# Altium footprint library ControlCircuit_PCB_Library_V1_0.PcbLib: 207 footprints (part 13 of 13)
Each footprint in its own frame and in the unit in brackets; x right, y up, seen from the top. Pads: shape width x height; smd on the part's side, far side on the other; paste and mask are expansions set on the pad; w line width, h text height; cw(c..) or ccw(c..) is an arc to the next point about the centre after c.
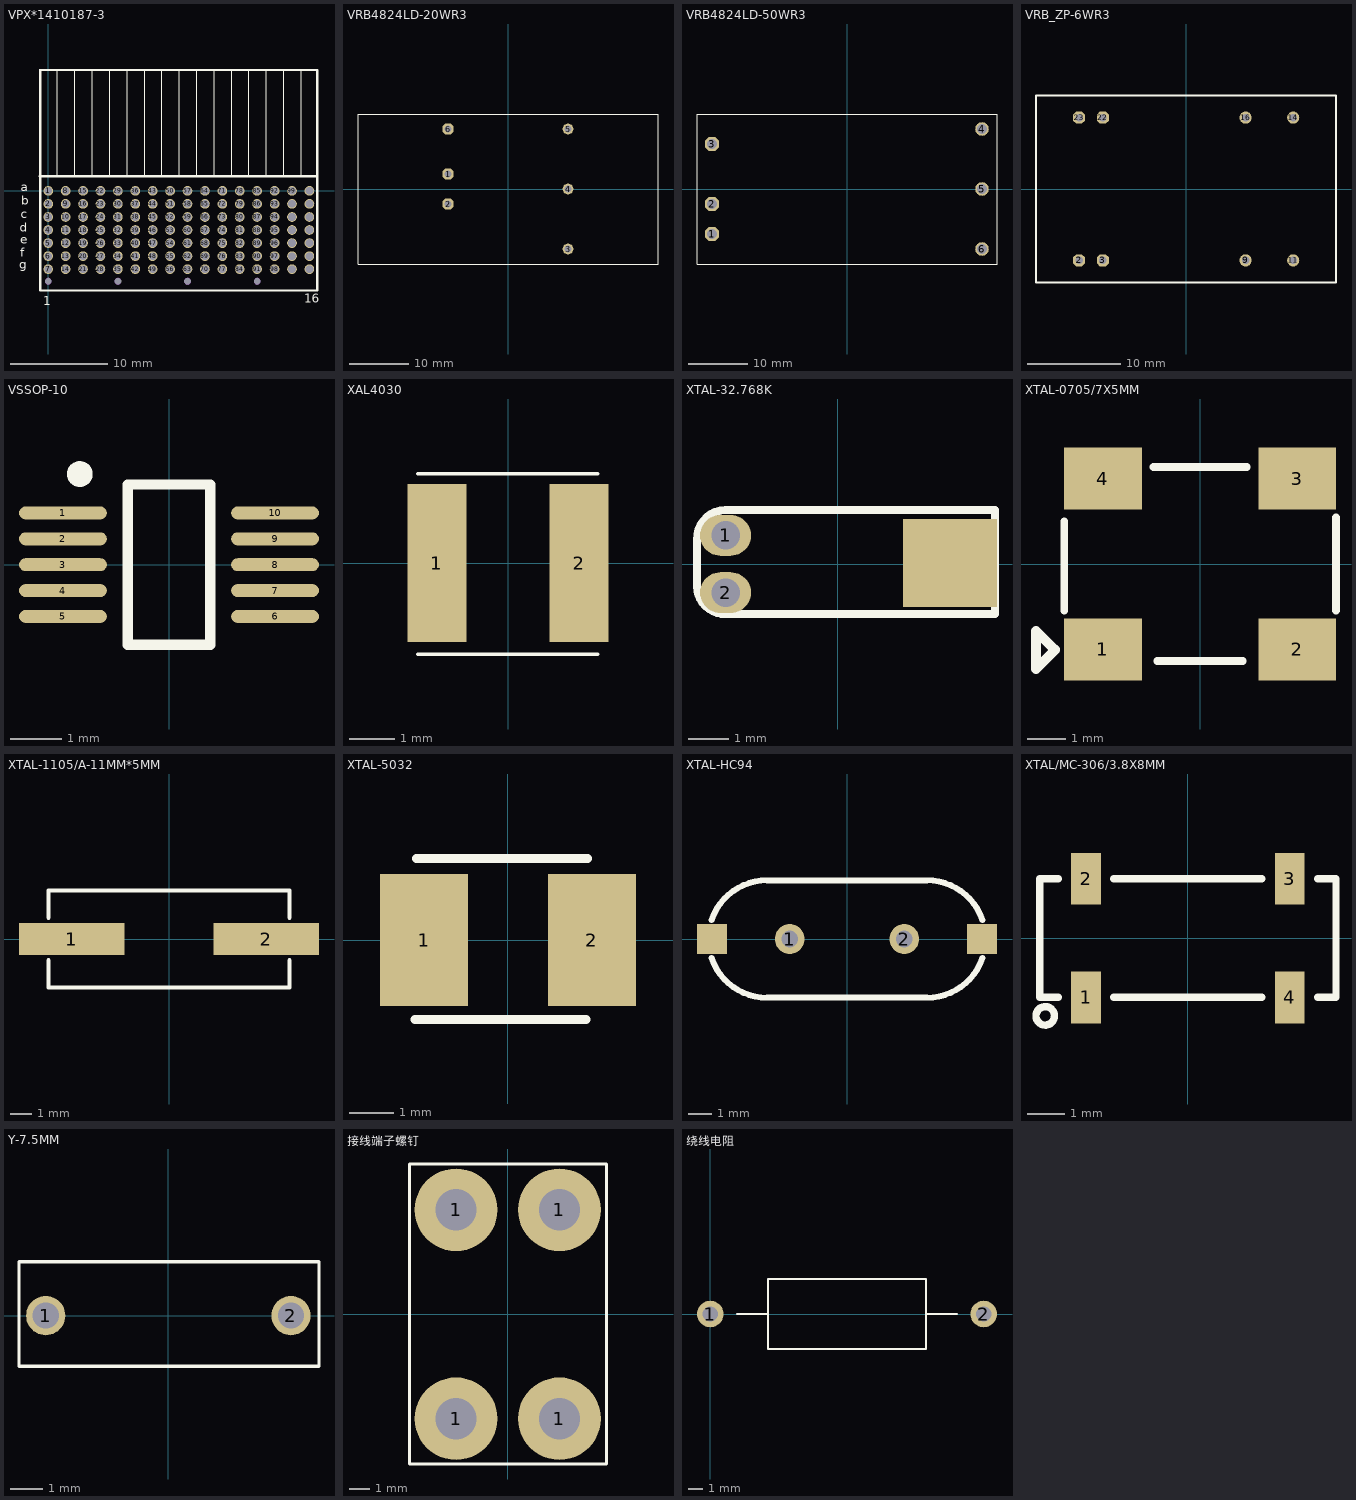
[diagram p12: the footprints below, top view; thin cyan lines are the x and y axes]

## VPX*1410187-3 [mm]
pads (116):
  round 0 hole 0.7 mask+0.102: 0(-0.003,-9.35) 0(7.198,-9.35) 0(14.397,-9.35) 0(21.598,-9.35)
  round 1 hole 0.8 mask+0.102: 1(0,0) 2(0,-1.346) 3(-0.003,-2.7) 4(-0.003,-4.049) 5(-0.003,-5.4) 6(-0.003,-6.749) 7(-0.003,-8.1) 8(1.798,0) 9(1.798,-1.346) 10(1.796,-2.7) 11(1.796,-4.049) 12(1.796,-5.4) 13(1.796,-6.749) 14(1.796,-8.1) 15(3.599,0) 16(3.599,-1.346) 17(3.597,-2.7) 18(3.597,-4.049) 19(3.597,-5.4) 20(3.597,-6.749) 21(3.597,-8.1) 22(5.397,0) 23(5.397,-1.346) 24(5.395,-2.7) 25(5.395,-4.049) 26(5.395,-5.4) 27(5.395,-6.749) 28(5.395,-8.1) 29(7.198,0) 30(7.198,-1.346) 31(7.196,-2.7) 32(7.196,-4.049) 33(7.196,-5.4) 34(7.196,-6.749) 35(7.196,-8.1) 36(8.997,0) 37(8.997,-1.346) 38(8.994,-2.7) 39(8.994,-4.049) 40(8.994,-5.4) 41(8.994,-6.749) 42(8.994,-8.1) 43(10.798,0) 44(10.798,-1.346) 45(10.795,-2.7) 46(10.795,-4.049) 47(10.795,-5.4) 48(10.795,-6.749) 49(10.795,-8.1) 50(12.598,0) 51(12.598,-1.346) 52(12.596,-2.7) 53(12.596,-4.049) 54(12.596,-5.4) 55(12.596,-6.749) 56(12.596,-8.1) 57(14.397,0) 58(14.397,-1.346) 59(14.394,-2.7) 60(14.394,-4.049) 61(14.394,-5.4) 62(14.394,-6.749) 63(14.394,-8.1) 64(16.198,0) 65(16.198,-1.346) 66(16.195,-2.7) 67(16.195,-4.049) 68(16.195,-5.4) 69(16.195,-6.749) 70(16.195,-8.1) 71(17.998,0) 72(17.998,-1.346) 73(17.996,-2.7) 74(17.996,-4.049) 75(17.996,-5.4) 76(17.996,-6.749) 77(17.996,-8.1) 78(19.797,0) 79(19.797,-1.346) 80(19.794,-2.7) 81(19.794,-4.049) 82(19.794,-5.4) 83(19.794,-6.749) 84(19.794,-8.1) 85(21.598,0) 86(21.598,-1.346) 87(21.595,-2.7) 88(21.595,-4.049) 89(21.595,-5.4) 90(21.595,-6.749) 91(21.595,-8.1) 92(23.398,0) 93(23.398,-1.346) 94(23.396,-2.7) 95(23.396,-4.049) 96(23.396,-5.4) 97(23.396,-6.749) 98(23.396,-8.1) 99(25.197,0) 100(25.197,-1.346) 101(25.194,-2.7) 102(25.194,-4.049) 103(25.194,-5.4) 104(25.194,-6.749) 105(25.194,-8.1) 106(26.998,0) 107(26.998,-1.346) 108(26.995,-2.7) 109(26.995,-4.049) 110(26.995,-5.4) 111(26.995,-6.749) 112(26.995,-8.1)
Top Overlay:
  lines w0.1: 0.947,1.501 0.947,12.459 ; 2.748,1.501 2.748,12.459 ; 4.549,1.501 4.549,12.459 ; 6.347,1.501 6.347,12.459 ; 8.148,1.501 8.148,12.459 ; 9.949,1.501 9.949,12.459 ; 11.747,1.501 11.747,12.459 ; 13.548,1.501 13.548,12.459 ; 15.349,1.501 15.349,12.459 ; 17.15,1.501 17.15,12.459 ; 18.948,1.501 18.948,12.459 ; 20.749,1.501 20.749,12.459 ; 22.55,1.501 22.55,12.459 ; 24.348,1.501 24.348,12.459 ; 26.149,1.501 26.149,12.459
  lines w0.254: -0.859,1.501 27.783,1.501 27.793,1.491 ; -0.843,-10.304 27.824,-10.304 27.824,12.494 -0.834,12.494 -0.843,12.485 -0.843,-8.1 -0.843,-10.304
  text "a" at -2.85,-0.371 h1.52
  text "b" at -2.809,-1.725 h1.52
  text "c" at -2.863,-3.157 h1.52
  text "d" at -2.944,-4.536 h1.52
  text "e" at -2.891,-5.781 h1.52
  text "f" at -2.891,-7.135 h1.52
  text "g" at -3.025,-8.352 h1.52
  text "1" at -0.508,-12.113 h1.52
  text "16" at 26.464,-11.897 h1.52
Mechanical 1:
  drawing of 556 lines, arcs and shapes, not listed

## VRB4824LD-20WR3 [mm]
height 11.8
pads (6):
  oct 1.8x1.8 hole 1.25: 1(-10.16,2.54) 2(-10.16,-2.54) 6(-10.16,10.16)
  round 1.8 hole 1.25: 3(10.16,-10.16) 4(10.16,0) 5(10.16,10.16)
Top Overlay:
  lines w0.2: -25.4,-12.7 25.4,-12.7 25.4,12.7 -25.4,12.7 -25.4,-12.7

## VRB4824LD-50WR3 [mm]
pads (6):
  oct 2.3x2.3 hole 1.7: 1(-22.86,-7.62) 2(-22.86,-2.54) 3(-22.86,7.62)
  round 2.3 hole 1.7: 4(22.86,10.16) 5(22.86,0) 6(22.86,-10.16)
Top Overlay:
  lines w0.2: -25.4,-12.7 -25.4,12.7 25.4,12.7 25.4,-12.7 -25.4,-12.7

## VRB_ZP-6WR3 [mm]
pads (8):
  oct 1.3x1.3 hole 0.8: 2(-11.43,-7.62) 3(-8.89,-7.62) 22(-8.89,7.62) 23(-11.43,7.62)
  round 1.3 hole 0.8: 9(6.35,-7.62) 11(11.43,-7.62) 14(11.43,7.62) 16(6.35,7.62)
Top Overlay:
  lines w0.2: -16.027,-9.246 -16.027,10 16.002,10 16.002,-7.62 16.002,-9.975 ; -16.027,-5.385 -16.027,-10 16.002,-10

## VSSOP-10 [mm] "SSOP, 10-Leads, Body 3.1x7.5mm (max), Pitch 0.50mm, IPC Medium Density"
height 2.65
pads (10):
  oval 1.7x0.25 smd: 1(-2.05,1) 2(-2.05,0.5) 3(-2.05,0) 4(-2.05,-0.5) 5(-2.05,-1) 6(2.05,-1) 7(2.05,-0.5) 8(2.05,0) 9(2.05,0.5) 10(2.05,1)
Top Overlay:
  circle w0.25: c-1.725,1.753 r0.125
  lines w0.2: -0.8,-1.55 0.8,-1.55 0.8,1.55 -0.8,1.55 -0.8,-1.55

## XAL4030 [mm]
pads (2):
  rect 1.3x3.5 smd: 1(-1.575,0) 2(1.575,0)
Top Overlay:
  lines w0.076: -2.007,-2.019 1.993,-2.019 ; -2.007,1.981 1.993,1.981

## XTAL-32.768K [mil]
pads (3):
  oval 50x40 hole 28: 1(-110,28) 2(-110,-28)
  rect 92.13x86 smd: ""(110,1)
Top Overlay:
  lines w8: -138,-22 ccw(c-110.5,-21.5) -110,-49 154,-49 154,53 -110,53 ccw(c-109.5,24.5) -138,24 -138,-22

## XTAL-0705/7X5MM [mm]
pads (4):
  rect 2x1.6 smd: 1(-2.5,-2.2) 2(2.5,-2.2) 3(2.5,2.2) 4(-2.5,2.2)
Top Overlay:
  lines w0.2: -3.5,-1.2 -3.5,1.1 ; -1.2,2.5 1.2,2.5 ; -1.1,-2.5 1.1,-2.5 ; 3.5,-1.2 3.5,1.2
  lines w0.254: -4.225,-2.7 -3.738,-2.213 -3.738,-2.2 -3.75,-2.2 -4.225,-1.725 -4.225,-2.7

## XTAL-1105/A-11MM*5MM [mm]
pads (2):
  rect 5x1.5 smd: 1(-4.6,0) 2(4.6,0)
Top Overlay:
  lines w0.203: -5.7,-1 -5.7,-2.3 5.7,-2.3 5.7,-1 ; -5.7,1 -5.7,2.3 5.7,2.3 5.7,1

## XTAL-5032 [mm]
pads (2):
  rect 2x3 smd: 1(-1.905,0) 2(1.905,0)
Top Overlay:
  lines w0.2: -2.108,-1.803 1.778,-1.803 ; -2.083,1.854 1.803,1.854

## XTAL-HC94 [mm]
pads (4):
  round 1.27 hole 0.711: 1(-2.44,0) 2(2.44,0)
  rect 1.27x1.27 smd: ""(-5.75,0) ""(5.75,0)
Top Overlay:
  lines w0.254: -5.765,-0.809 ccw(c-3.4,0) -3.4,-2.5 ; -5.765,0.809 cw(c-3.4,0) -3.4,2.5 ; -3.405,2.5 3.4,2.5 cw(c3.4,0) 5.766,0.809 ; -3.4,-2.5 3.4,-2.5 ccw(c3.4,0) 5.766,-0.809

## XTAL/MC-306/3.8X8MM [mm]
pads (4):
  rect 0.8x1.4 smd: 1(-2.75,-1.6) 2(-2.75,1.6) 3(2.75,1.6) 4(2.75,-1.6)
Top Overlay:
  circle w0.2: c-3.85,-2.1 r0.25
  lines w0.2: -3.5,-1.6 -4,-1.6 -4,1.6 -3.5,1.6 ; -2,-1.6 2,-1.6 ; -2,1.6 2,1.6 ; 3.5,-1.6 4,-1.6 4,1.6 3.5,1.6

## Y-7.5MM [mm]
pads (2):
  round 1.2 hole 0.8: 1(-3.748,0) 2(3.748,0)
Top Overlay:
  lines w0.1: 4.605,1.626 4.605,-1.549 -4.565,-1.549 -4.565,1.651 4.605,1.651

## 接线端子螺钉 [mm]
pads (4):
  round 4 hole 2: 1(-2.5,-5.05) 1(-2.5,5.05) 1(2.5,-5.05) 1(2.5,5.05)
Top Overlay:
  lines w0.127: -4.75,-7.239 4.775,-7.239 4.775,7.264 -4.75,7.264 -4.75,-7.239

## 绕线电阻 [mm]
pads (2):
  round 1.9 hole 1.1: 1(0,0) 2(19.5,0)
Top Overlay:
  lines w0.15: 1.9,0 4.125,0 ; 15.375,0 17.6,0 ; 4.125,0 4.125,2.5 15.375,2.5 15.375,-2.5 4.125,-2.5 4.125,0